# EAGLE library part TPIC8101 (library PNP)
Knock Detector Processing Chip, controllable over SPI
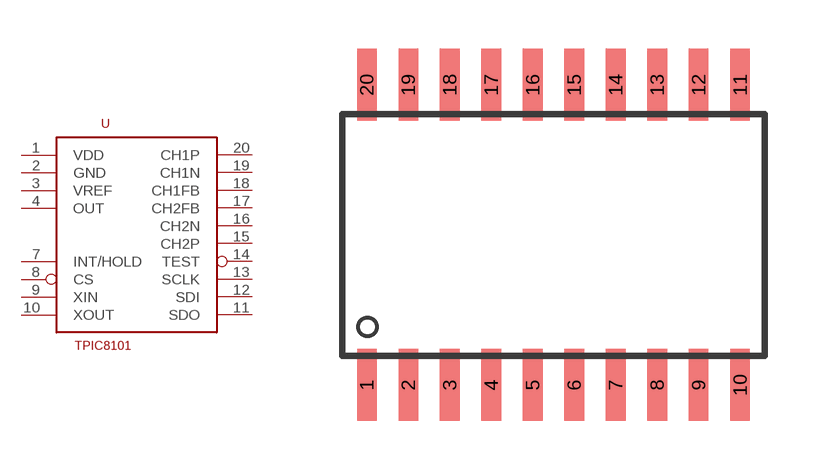
[diagram p5: symbol with the pads of SO-20DW; footprint SO-20DW]

Designator prefix -

## TPIC8101 (DIGIKEY: 296-24864-1-ND; MFN: TPIC8101DWRG4)  [SO-20DW]
1  VDD  pwr
2  GND  pwr
3  VREF  pas
4  OUT  out
7  INT/HOLD
8  CS  in
9  XIN  pas
10  XOUT  pas
11  SDO
12  SDI  in
13  SCLK  in
14  TEST
15  CH2P
16  CH2N
17  CH2FB
18  CH1FB
19  CH1N
20  CH1P

## Footprint SO-20DW (pad centres in mm)
Small Outline Integrated Circuit wide
smd 0.6 x 2.2: 1 -5.715,-4.6; 2 -4.445,-4.6; 3 -3.175,-4.6; 4 -1.905,-4.6; 5 -0.635,-4.6; 6 0.635,-4.6; 7 1.905,-4.6; 8 3.175,-4.6; 9 4.445,-4.6; 10 5.715,-4.6; 11 5.715,4.6; 12 4.445,4.6; 13 3.175,4.6; 14 1.905,4.6; 15 0.635,4.6; 16 -0.635,4.6; 17 -1.905,4.6; 18 -3.175,4.6; 19 -4.445,4.6; 20 -5.715,4.6